# EAGLE library part BOARD_ARDUINO-NANO (library SMD-Components_E950)
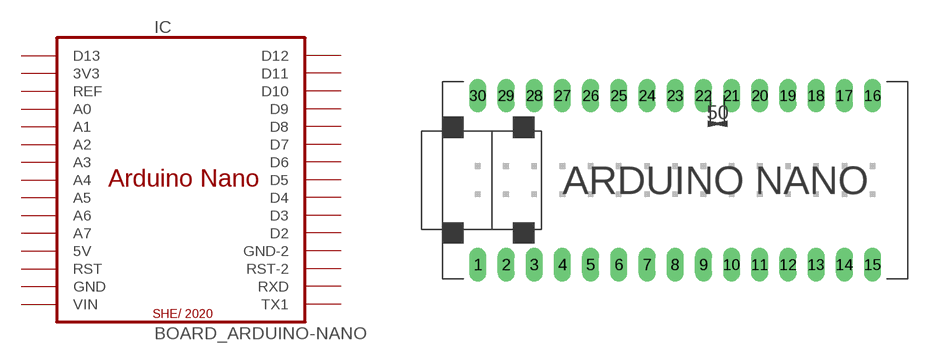
[diagram p5: symbol with the pads of BOARD_ARDUINO-NANO; footprint BOARD_ARDUINO-NANO]

Designator prefix IC

## BOARD_ARDUINO-NANO  [BOARD_ARDUINO-NANO]
1  D13  pas
2  3V3  pas
3  REF  pas
4  A0  pas
5  A1  pas
6  A2  pas
7  A3  pas
8  A4  pas
9  A5  pas
10  A6  pas
11  A7  pas
12  5V  pas
13  RST  pas
14  GND  pas
15  VIN  pas
16  TX1  pas
17  RXD  pas
18  RST-2  pas
19  GND-2  pas
20  D2  pas
21  D3  pas
22  D4  pas
23  D5  pas
24  D6  pas
25  D7  pas
26  D8  pas
27  D9  pas
28  D10  pas
29  D11  pas
30  D12  pas

## Footprint BOARD_ARDUINO-NANO (pad centres in mm)
PIN HEADER
drill 1 pad 1.27 long: 1 -17.78,-7.62; 2 -15.24,-7.62; 3 -12.7,-7.62; 4 -10.16,-7.62; 5 -7.62,-7.62; 6 -5.08,-7.62; 7 -2.54,-7.62; 8 0,-7.62; 9 2.54,-7.62; 10 5.08,-7.62; 11 7.62,-7.62; 12 10.16,-7.62; 13 12.7,-7.62; 14 15.24,-7.62; 15 17.78,-7.62; 16 17.78,7.62; 17 15.24,7.62; 18 12.7,7.62; 19 10.16,7.62; 20 7.62,7.62; 21 5.08,7.62; 22 2.54,7.62; 23 0,7.62; 24 -2.54,7.62; 25 -5.08,7.62; 26 -7.62,7.62; 27 -10.16,7.62; 28 -12.7,7.62; 29 -15.24,7.62; 30 -17.78,7.62